# Altium footprint library current_sense.PcbLib: 3 footprints
Each footprint in its own frame and in the unit in brackets; x right, y up, seen from the top. Pads: shape width x height; smd on the part's side, far side on the other; paste and mask are expansions set on the pad; w line width, h text height; cw(c..) or ccw(c..) is an arc to the next point about the centre after c.
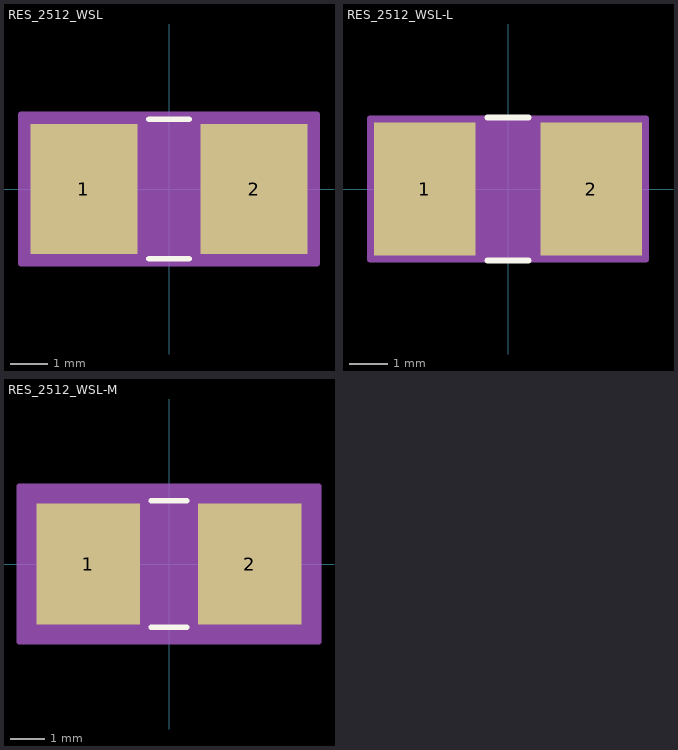
[diagram p0: the footprints below, top view; thin cyan lines are the x and y axes]

## RES_2512_WSL [mil]
pads (2):
  rect 111x135 smd paste+0 mask+0: 1(-88.5,0) 2(88.5,0)
Top Overlay:
  lines w6: -20.89,-72.5 20.89,-72.5 ; -20.89,72.5 20.89,72.5
Mechanical 13:
  lines w1: -130,-67.5 -130,67.5 ; -130,-67.5 -33,-67.5 -33,67.5 -130,67.5 ; -130,-67.5 130,-67.5 ; -130,-67.5 -130,67.5 ; -130,67.5 130,67.5 ; 130,-67.5 33,-67.5 33,67.5 130,67.5 ; 130,-67.5 130,67.5 ; 130,-67.5 130,67.5
Mechanical 15:
  region: 154,-77.5 -154,-77.5 -154,77.5 154,77.5
  lines w6: -154,-77.5 -154,77.5 154,77.5 154,-77.5 -154,-77.5
3D body: height 10, standoff 0, extent 0,0 10,10

## RES_2512_WSL-L [mil]
pads (2):
  rect 103x135 smd paste+0 mask+0: 1(-84.5,0) 2(84.5,0)
Top Overlay:
  lines w6: -20.89,-72.5 20.89,-72.5 ; -20.89,72.5 20.89,72.5
Mechanical 13:
  lines w1: -130,-67.5 -130,67.5 ; -130,-67.5 -33,-67.5 -33,67.5 -130,67.5 ; -130,-67.5 130,-67.5 ; -130,-67.5 -130,67.5 ; -130,67.5 130,67.5 ; 130,-67.5 33,-67.5 33,67.5 130,67.5 ; 130,-67.5 130,67.5 ; 130,-67.5 130,67.5
Mechanical 15:
  region: 140,-71.5 -140,-71.5 -140,71.5 140,71.5
  lines w6: -140,-71.5 -140,71.5 140,71.5 140,-71.5 -140,-71.5
3D body: height 10, standoff 0, extent 0,0 10,10

## RES_2512_WSL-M [mil]
pads (2):
  rect 119x139 smd paste+0 mask+0: 1(-92.5,0) 2(92.5,0)
Top Overlay:
  lines w6: -20.25,-72.5 20.25,-72.5 ; -20.25,72.5 20.25,72.5
Mechanical 13:
  lines w1: -130,-67.5 -130,67.5 ; -130,-67.5 -33,-67.5 -33,67.5 -130,67.5 ; -130,-67.5 130,-67.5 ; -130,-67.5 -130,67.5 ; -130,67.5 130,67.5 ; 130,-67.5 33,-67.5 33,67.5 130,67.5 ; 130,-67.5 130,67.5 ; 130,-67.5 130,67.5
Mechanical 15:
  region: 172,-89.5 -172,-89.5 -172,89.5 172,89.5
  lines w6: -172,-89.5 -172,89.5 172,89.5 172,-89.5 -172,-89.5
3D body: height 10, standoff 0, extent 0,0 10,10